# Altium integrated library Micron Memory DDR2 SDRAM.IntLib: 62 symbols (part 15 of 16)
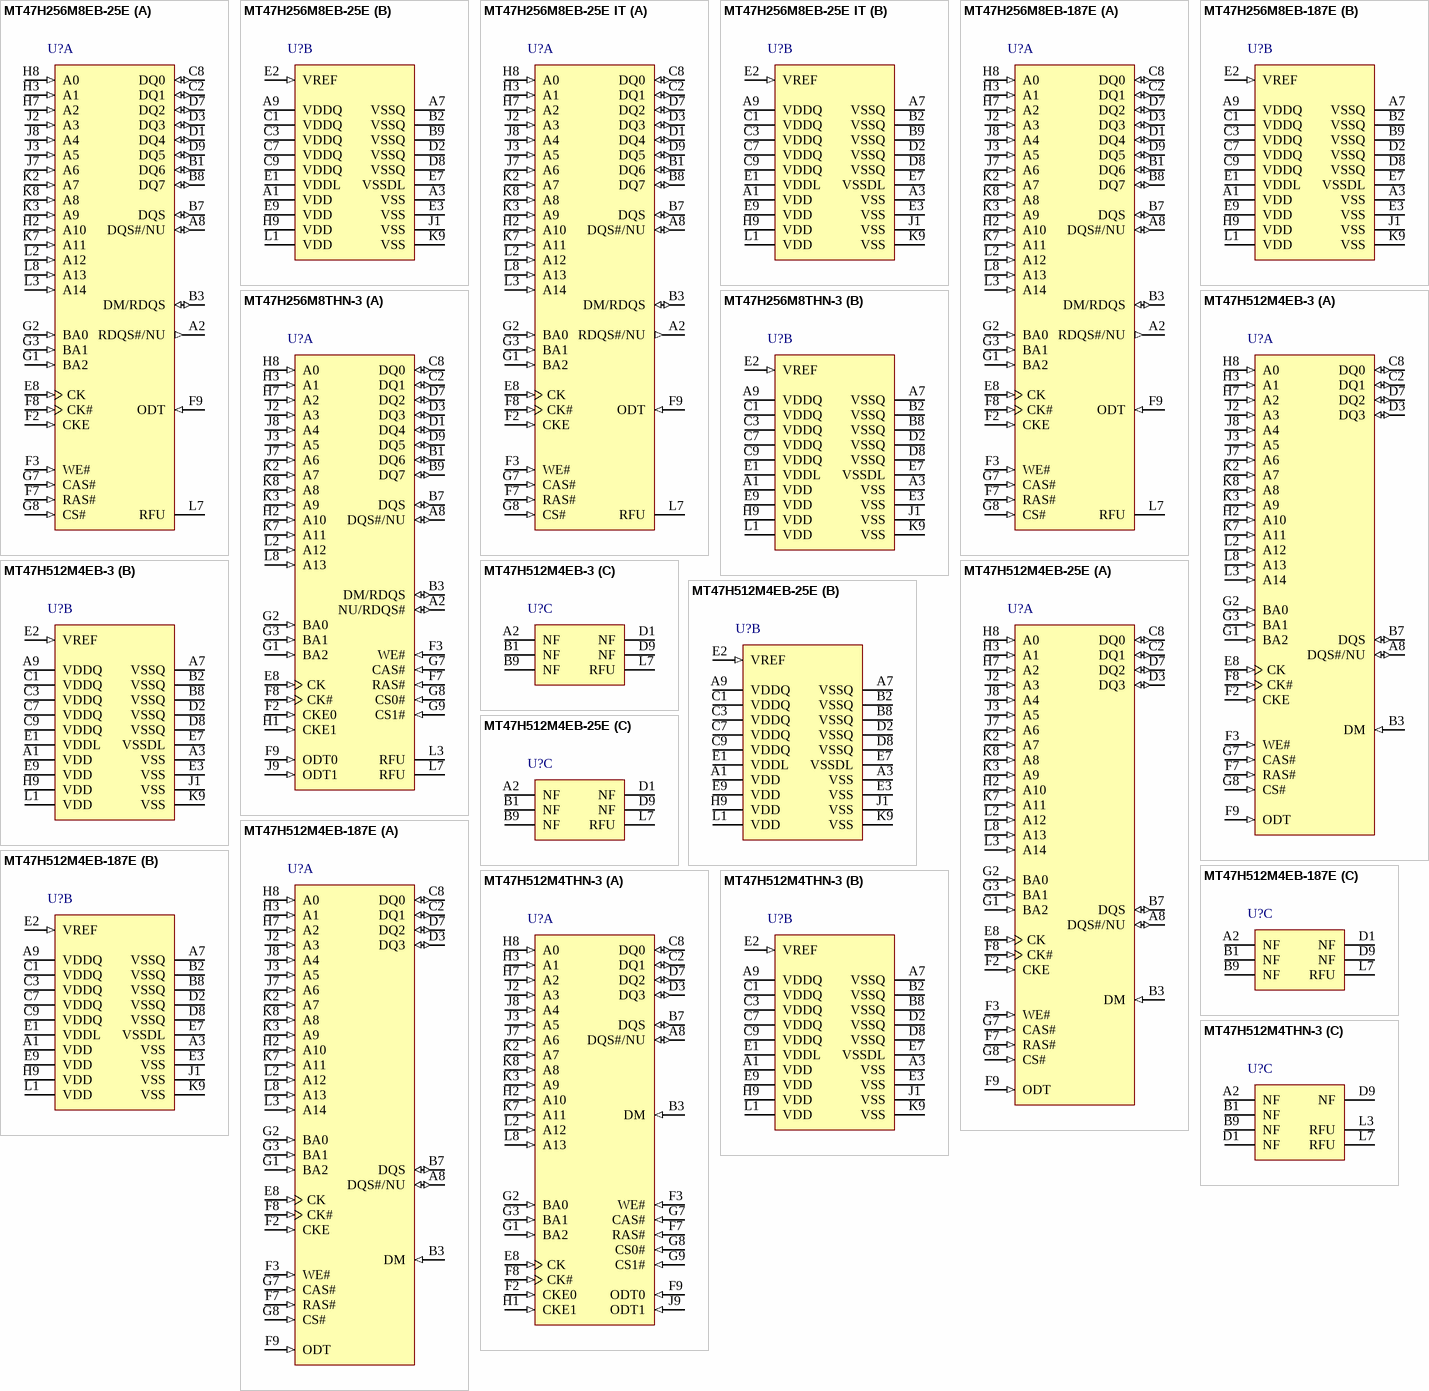
[diagram p21: symbols MT47H256M8EB-25E to MT47H512M4THN-3]

## MT47H512M4EB-3
designator U?
2Gb DDR2-667 SDRAM, 512Mb x 4, 3ns, 1.8V, 0 to 85 degC, 60-Ball FBGA, Pb-Free; Manufacturer: Micron; PartNumber: MT47H512M4EB-3; CL: CL = 5; Clock Rate: 333 MHz; Op. Temp.: 0C to +85C; DatasheetVersion: Rev.H; PackageVersion: Rev.C; PackageReference: MICT-EB-60; PackageDescription: 60-Ball Fine-Pitch Ball Grid Array, 11.5 x 9 mm, Pitch 0.8 mm; Cycle Time: 3ns; Data Rate: DDR2-667; Density: 2Gb; Depth: 512Mb; Package: FBGA; Pin Count: 60-ball; RoHS: Yes; Voltage: 1.8V; Width: x4; Mounting Technology: Surface Mount; ComponentLink1Description: Manufacturer URL; ComponentLink1URL: http://www.micron.com/; ComponentLink2Description: Datasheet; ComponentLink2URL: http://www.micron.com/~/media/Documents/Products/Data%20Sheet/DRAM/2Gb_DDR2.pdf; ComponentLink3Description: Package Specification; ComponentLink3URL: http://www.micron.com/~/media/Documents/Products/Data%20Sheet/DRAM/2Gb_DDR2.pdf
footprint MICT-EB-60 (BGA, 60-Balls, Body 11.5x9mm, Pitch 0.8mm)
part A pins: A8 DQS#/NU (io) "Data strobe: Output with read data, input with write data for source synchronous operation. Edge-aligned with read data, center-aligned with write data. DQS# is only used when differential data strobe mode is enabled via the (See Datasheet)", B3 DM (in) "Input data mask: DM is an input mask signal for write data. Input data is masked when DM is concurrently sampled HIGH during a WRITE access. DM is sampled on both edges of DQS. Although DM balls are input-only, the DM (See Datasheet)", B7 DQS (io) "Data strobe: Output with read data, input with write data for source synchronous operation. Edge-aligned with read data, center-aligned with write data. DQS# is only used when differential data strobe mode is enabled via the (See Datasheet)", C2 DQ1 (io) "Data input/output: Bidirectional data bus for 512 Meg x 4.", C8 DQ0 (io) "Data input/output: Bidirectional data bus for 512 Meg x 4.", D3 DQ3 (io) "Data input/output: Bidirectional data bus for 512 Meg x 4.", D7 DQ2 (io) "Data input/output: Bidirectional data bus for 512 Meg x 4.", E8 CK (in) "Clock: CK and CK# are differential clock inputs. All address and control input signals are sampled on the crossing of the positive edge of CK and negative edge of CK#. Output data (DQ and DQS/DQS#) is referenced to the (See Datasheet)", F2 CKE (in) "Clock enable: CKE (registered HIGH) activates and CKE (registered LOW) deactivates clocking circuitry on the DDR2 SDRAM. The specific circuitry that is enabled/disabled is dependent on the DDR2 SDRAM configuration and (See Datasheet)", F3 WE# (in) "Command inputs: RAS#, CAS#, and WE# (along with CS#) define the command being entered.", F7 RAS# (in) "Command inputs: RAS#, CAS#, and WE# (along with CS#) define the command being entered.", F8 CK# (in) "Clock: CK and CK# are differential clock inputs. All address and control input signals are sampled on the crossing of the positive edge of CK and negative edge of CK#. Output data (DQ and DQS/DQS#) is referenced to the (See Datasheet)", F9 ODT (in) "On-die termination: ODT (registered HIGH) enables termination resistance internal to the DDR2 SDRAM. When enabled, ODT is only applied to each of the following balls: DQ[15:0], LDM, UDM, LDQS, LDQS#, UDQS, and UDQS# for the (See Datasheet)", G1 BA2 (in) "Bank address inputs: BA[2:0] define to which bank an ACTIVE, READ, WRITE, or PRECHARGE command is being applied. BA[2:0] define which mode register, including MR, EMR, EMR(2), and EMR(3), is loaded during the LOAD MODE (See Datasheet)", G2 BA0 (in) "Bank address inputs: BA[2:0] define to which bank an ACTIVE, READ, WRITE, or PRECHARGE command is being applied. BA[2:0] define which mode register, including MR, EMR, EMR(2), and EMR(3), is loaded during the LOAD MODE (See Datasheet)", G3 BA1 (in) "Bank address inputs: BA[2:0] define to which bank an ACTIVE, READ, WRITE, or PRECHARGE command is being applied. BA[2:0] define which mode register, including MR, EMR, EMR(2), and EMR(3), is loaded during the LOAD MODE (See Datasheet)", G7 CAS# (in) "Command inputs: RAS#, CAS#, and WE# (along with CS#) define the command being entered.", G8 CS# (in) "Chip select: CS# enables (registered LOW) and disables (registered HIGH) the command decoder. All commands are masked when CS# is registered high. CS# provides for external bank selection on systems with multiple ranks. CS# (See Datasheet)", H2 A10 (in) "Address inputs: Provide the row address for ACTIVE commands, and the column address and auto precharge bit (A10) for READ/WRITE commands, to select one location out of the memory array in the respective bank. A10 sampled (See Datasheet)", H3 A1 (in) "Address inputs: Provide the row address for ACTIVE commands, and the column address and auto precharge bit (A10) for READ/WRITE commands, to select one location out of the memory array in the respective bank. A10 sampled (See Datasheet)", H7 A2 (in) "Address inputs: Provide the row address for ACTIVE commands, and the column address and auto precharge bit (A10) for READ/WRITE commands, to select one location out of the memory array in the respective bank. A10 sampled (See Datasheet)", H8 A0 (in) "Address inputs: Provide the row address for ACTIVE commands, and the column address and auto precharge bit (A10) for READ/WRITE commands, to select one location out of the memory array in the respective bank. A10 sampled (See Datasheet)", J2 A3 (in) "Address inputs: Provide the row address for ACTIVE commands, and the column address and auto precharge bit (A10) for READ/WRITE commands, to select one location out of the memory array in the respective bank. A10 sampled (See Datasheet)", J3 A5 (in) "Address inputs: Provide the row address for ACTIVE commands, and the column address and auto precharge bit (A10) for READ/WRITE commands, to select one location out of the memory array in the respective bank. A10 sampled (See Datasheet)", J7 A6 (in) "Address inputs: Provide the row address for ACTIVE commands, and the column address and auto precharge bit (A10) for READ/WRITE commands, to select one location out of the memory array in the respective bank. A10 sampled (See Datasheet)", J8 A4 (in) "Address inputs: Provide the row address for ACTIVE commands, and the column address and auto precharge bit (A10) for READ/WRITE commands, to select one location out of the memory array in the respective bank. A10 sampled (See Datasheet)", K2 A7 (in) "Address inputs: Provide the row address for ACTIVE commands, and the column address and auto precharge bit (A10) for READ/WRITE commands, to select one location out of the memory array in the respective bank. A10 sampled (See Datasheet)", K3 A9 (in) "Address inputs: Provide the row address for ACTIVE commands, and the column address and auto precharge bit (A10) for READ/WRITE commands, to select one location out of the memory array in the respective bank. A10 sampled (See Datasheet)", K7 A11 (in) "Address inputs: Provide the row address for ACTIVE commands, and the column address and auto precharge bit (A10) for READ/WRITE commands, to select one location out of the memory array in the respective bank. A10 sampled (See Datasheet)", K8 A8 (in) "Address inputs: Provide the row address for ACTIVE commands, and the column address and auto precharge bit (A10) for READ/WRITE commands, to select one location out of the memory array in the respective bank. A10 sampled (See Datasheet)", L2 A12 (in) "Address inputs: Provide the row address for ACTIVE commands, and the column address and auto precharge bit (A10) for READ/WRITE commands, to select one location out of the memory array in the respective bank. A10 sampled (See Datasheet)", L3 A14 (in) "Address inputs: Provide the row address for ACTIVE commands, and the column address and auto precharge bit (A10) for READ/WRITE commands, to select one location out of the memory array in the respective bank. A10 sampled (See Datasheet)", L8 A13 (in) "Address inputs: Provide the row address for ACTIVE commands, and the column address and auto precharge bit (A10) for READ/WRITE commands, to select one location out of the memory array in the respective bank. A10 sampled (See Datasheet)"
part B pins: A1 VDD (power) "Power supply: 1.8V +/-0.1V.", A3 VSS (power) "Ground.", A7 VSSQ (power) "DQ ground: Isolated on the device for improved noise immunity.", A9 VDDQ (power) "DQ power supply: 1.8V +/-0.1V. Isolated on the device for improved noise immunity.", B2 VSSQ (power) "DQ ground: Isolated on the device for improved noise immunity.", B8 VSSQ (power) "DQ ground: Isolated on the device for improved noise immunity.", C1 VDDQ (power) "DQ power supply: 1.8V +/-0.1V. Isolated on the device for improved noise immunity.", C3 VDDQ (power) "DQ power supply: 1.8V +/-0.1V. Isolated on the device for improved noise immunity.", C7 VDDQ (power) "DQ power supply: 1.8V +/-0.1V. Isolated on the device for improved noise immunity.", C9 VDDQ (power) "DQ power supply: 1.8V +/-0.1V. Isolated on the device for improved noise immunity.", D2 VSSQ (power) "DQ ground: Isolated on the device for improved noise immunity.", D8 VSSQ (power) "DQ ground: Isolated on the device for improved noise immunity.", E1 VDDL (power) "DLL power supply: 1.8V +/-0.1V.", E2 VREF (in) "SSTL_18 reference voltage.", E3 VSS (power) "Ground.", E7 VSSDL (power) "DLL ground: Isolated on the device from VSS and VSSQ.", E9 VDD (power) "Power supply: 1.8V +/-0.1V.", H9 VDD (power) "Power supply: 1.8V +/-0.1V.", J1 VSS (power) "Ground.", K9 VSS (power) "Ground.", L1 VDD (power) "Power supply: 1.8V +/-0.1V."
part C pins: A2 NF "No function: Not used only on x4. These are data lines on the x8.", B1 NF "No function: Not used only on x4. These are data lines on the x8.", B9 NF "No function: Not used only on x4. These are data lines on the x8.", D1 NF "No function: Not used only on x4. These are data lines on the x8.", D9 NF "No function: Not used only on x4. These are data lines on the x8.", L7 RFU "Reserved for future use: Row address bits A14 (R3), A15 (R7) on the x16, and A15 (L7) on the x4/x8."

## MT47H512M4EB-25E
designator U?
2Gb DDR2-800 SDRAM, 512Mb x 4, 2.5ns, 1.8V, 0 to 85 degC, 60-Ball FBGA, Pb-Free; Manufacturer: Micron; PartNumber: MT47H512M4EB-25E; CL: CL = 5; Clock Rate: 400 MHz; Op. Temp.: 0C to +85C; DatasheetVersion: Rev.H; PackageVersion: Rev.C; PackageReference: MICT-EB-60; PackageDescription: 60-Ball Fine-Pitch Ball Grid Array, 11.5 x 9 mm, Pitch 0.8 mm; Cycle Time: 2.5ns; Data Rate: DDR2-800; Density: 2Gb; Depth: 512Mb; Package: FBGA; Pin Count: 60-ball; RoHS: Yes; Voltage: 1.8V; Width: x4; Mounting Technology: Surface Mount; ComponentLink1Description: Manufacturer URL; ComponentLink1URL: http://www.micron.com/; ComponentLink2Description: Datasheet; ComponentLink2URL: http://www.micron.com/~/media/Documents/Products/Data%20Sheet/DRAM/2Gb_DDR2.pdf; ComponentLink3Description: Package Specification; ComponentLink3URL: http://www.micron.com/~/media/Documents/Products/Data%20Sheet/DRAM/2Gb_DDR2.pdf
footprint MICT-EB-60 (BGA, 60-Balls, Body 11.5x9mm, Pitch 0.8mm)
part A pins: A8 DQS#/NU (io) "Data strobe: Output with read data, input with write data for source synchronous operation. Edge-aligned with read data, center-aligned with write data. DQS# is only used when differential data strobe mode is enabled via the (See Datasheet)", B3 DM (in) "Input data mask: DM is an input mask signal for write data. Input data is masked when DM is concurrently sampled HIGH during a WRITE access. DM is sampled on both edges of DQS. Although DM balls are input-only, the DM (See Datasheet)", B7 DQS (io) "Data strobe: Output with read data, input with write data for source synchronous operation. Edge-aligned with read data, center-aligned with write data. DQS# is only used when differential data strobe mode is enabled via the (See Datasheet)", C2 DQ1 (io) "Data input/output: Bidirectional data bus for 512 Meg x 4.", C8 DQ0 (io) "Data input/output: Bidirectional data bus for 512 Meg x 4.", D3 DQ3 (io) "Data input/output: Bidirectional data bus for 512 Meg x 4.", D7 DQ2 (io) "Data input/output: Bidirectional data bus for 512 Meg x 4.", E8 CK (in) "Clock: CK and CK# are differential clock inputs. All address and control input signals are sampled on the crossing of the positive edge of CK and negative edge of CK#. Output data (DQ and DQS/DQS#) is referenced to the (See Datasheet)", F2 CKE (in) "Clock enable: CKE (registered HIGH) activates and CKE (registered LOW) deactivates clocking circuitry on the DDR2 SDRAM. The specific circuitry that is enabled/disabled is dependent on the DDR2 SDRAM configuration and (See Datasheet)", F3 WE# (in) "Command inputs: RAS#, CAS#, and WE# (along with CS#) define the command being entered.", F7 RAS# (in) "Command inputs: RAS#, CAS#, and WE# (along with CS#) define the command being entered.", F8 CK# (in) "Clock: CK and CK# are differential clock inputs. All address and control input signals are sampled on the crossing of the positive edge of CK and negative edge of CK#. Output data (DQ and DQS/DQS#) is referenced to the (See Datasheet)", F9 ODT (in) "On-die termination: ODT (registered HIGH) enables termination resistance internal to the DDR2 SDRAM. When enabled, ODT is only applied to each of the following balls: DQ[15:0], LDM, UDM, LDQS, LDQS#, UDQS, and UDQS# for the (See Datasheet)", G1 BA2 (in) "Bank address inputs: BA[2:0] define to which bank an ACTIVE, READ, WRITE, or PRECHARGE command is being applied. BA[2:0] define which mode register, including MR, EMR, EMR(2), and EMR(3), is loaded during the LOAD MODE (See Datasheet)", G2 BA0 (in) "Bank address inputs: BA[2:0] define to which bank an ACTIVE, READ, WRITE, or PRECHARGE command is being applied. BA[2:0] define which mode register, including MR, EMR, EMR(2), and EMR(3), is loaded during the LOAD MODE (See Datasheet)", G3 BA1 (in) "Bank address inputs: BA[2:0] define to which bank an ACTIVE, READ, WRITE, or PRECHARGE command is being applied. BA[2:0] define which mode register, including MR, EMR, EMR(2), and EMR(3), is loaded during the LOAD MODE (See Datasheet)", G7 CAS# (in) "Command inputs: RAS#, CAS#, and WE# (along with CS#) define the command being entered.", G8 CS# (in) "Chip select: CS# enables (registered LOW) and disables (registered HIGH) the command decoder. All commands are masked when CS# is registered high. CS# provides for external bank selection on systems with multiple ranks. CS# (See Datasheet)", H2 A10 (in) "Address inputs: Provide the row address for ACTIVE commands, and the column address and auto precharge bit (A10) for READ/WRITE commands, to select one location out of the memory array in the respective bank. A10 sampled (See Datasheet)", H3 A1 (in) "Address inputs: Provide the row address for ACTIVE commands, and the column address and auto precharge bit (A10) for READ/WRITE commands, to select one location out of the memory array in the respective bank. A10 sampled (See Datasheet)", H7 A2 (in) "Address inputs: Provide the row address for ACTIVE commands, and the column address and auto precharge bit (A10) for READ/WRITE commands, to select one location out of the memory array in the respective bank. A10 sampled (See Datasheet)", H8 A0 (in) "Address inputs: Provide the row address for ACTIVE commands, and the column address and auto precharge bit (A10) for READ/WRITE commands, to select one location out of the memory array in the respective bank. A10 sampled (See Datasheet)", J2 A3 (in) "Address inputs: Provide the row address for ACTIVE commands, and the column address and auto precharge bit (A10) for READ/WRITE commands, to select one location out of the memory array in the respective bank. A10 sampled (See Datasheet)", J3 A5 (in) "Address inputs: Provide the row address for ACTIVE commands, and the column address and auto precharge bit (A10) for READ/WRITE commands, to select one location out of the memory array in the respective bank. A10 sampled (See Datasheet)", J7 A6 (in) "Address inputs: Provide the row address for ACTIVE commands, and the column address and auto precharge bit (A10) for READ/WRITE commands, to select one location out of the memory array in the respective bank. A10 sampled (See Datasheet)", J8 A4 (in) "Address inputs: Provide the row address for ACTIVE commands, and the column address and auto precharge bit (A10) for READ/WRITE commands, to select one location out of the memory array in the respective bank. A10 sampled (See Datasheet)", K2 A7 (in) "Address inputs: Provide the row address for ACTIVE commands, and the column address and auto precharge bit (A10) for READ/WRITE commands, to select one location out of the memory array in the respective bank. A10 sampled (See Datasheet)", K3 A9 (in) "Address inputs: Provide the row address for ACTIVE commands, and the column address and auto precharge bit (A10) for READ/WRITE commands, to select one location out of the memory array in the respective bank. A10 sampled (See Datasheet)", K7 A11 (in) "Address inputs: Provide the row address for ACTIVE commands, and the column address and auto precharge bit (A10) for READ/WRITE commands, to select one location out of the memory array in the respective bank. A10 sampled (See Datasheet)", K8 A8 (in) "Address inputs: Provide the row address for ACTIVE commands, and the column address and auto precharge bit (A10) for READ/WRITE commands, to select one location out of the memory array in the respective bank. A10 sampled (See Datasheet)", L2 A12 (in) "Address inputs: Provide the row address for ACTIVE commands, and the column address and auto precharge bit (A10) for READ/WRITE commands, to select one location out of the memory array in the respective bank. A10 sampled (See Datasheet)", L3 A14 (in) "Address inputs: Provide the row address for ACTIVE commands, and the column address and auto precharge bit (A10) for READ/WRITE commands, to select one location out of the memory array in the respective bank. A10 sampled (See Datasheet)", L8 A13 (in) "Address inputs: Provide the row address for ACTIVE commands, and the column address and auto precharge bit (A10) for READ/WRITE commands, to select one location out of the memory array in the respective bank. A10 sampled (See Datasheet)"
part B pins: A1 VDD (power) "Power supply: 1.8V +/-0.1V.", A3 VSS (power) "Ground.", A7 VSSQ (power) "DQ ground: Isolated on the device for improved noise immunity.", A9 VDDQ (power) "DQ power supply: 1.8V +/-0.1V. Isolated on the device for improved noise immunity.", B2 VSSQ (power) "DQ ground: Isolated on the device for improved noise immunity.", B8 VSSQ (power) "DQ ground: Isolated on the device for improved noise immunity.", C1 VDDQ (power) "DQ power supply: 1.8V +/-0.1V. Isolated on the device for improved noise immunity.", C3 VDDQ (power) "DQ power supply: 1.8V +/-0.1V. Isolated on the device for improved noise immunity.", C7 VDDQ (power) "DQ power supply: 1.8V +/-0.1V. Isolated on the device for improved noise immunity.", C9 VDDQ (power) "DQ power supply: 1.8V +/-0.1V. Isolated on the device for improved noise immunity.", D2 VSSQ (power) "DQ ground: Isolated on the device for improved noise immunity.", D8 VSSQ (power) "DQ ground: Isolated on the device for improved noise immunity.", E1 VDDL (power) "DLL power supply: 1.8V +/-0.1V.", E2 VREF (in) "SSTL_18 reference voltage.", E3 VSS (power) "Ground.", E7 VSSDL (power) "DLL ground: Isolated on the device from VSS and VSSQ.", E9 VDD (power) "Power supply: 1.8V +/-0.1V.", H9 VDD (power) "Power supply: 1.8V +/-0.1V.", J1 VSS (power) "Ground.", K9 VSS (power) "Ground.", L1 VDD (power) "Power supply: 1.8V +/-0.1V."
part C pins: A2 NF "No function: Not used only on x4. These are data lines on the x8.", B1 NF "No function: Not used only on x4. These are data lines on the x8.", B9 NF "No function: Not used only on x4. These are data lines on the x8.", D1 NF "No function: Not used only on x4. These are data lines on the x8.", D9 NF "No function: Not used only on x4. These are data lines on the x8.", L7 RFU "Reserved for future use: Row address bits A14 (R3), A15 (R7) on the x16, and A15 (L7) on the x4/x8."

## MT47H512M4EB-187E
designator U?
2Gb DDR2-1066 SDRAM, 512Mb x 4, 1.875ns, 1.8V, 0 to 85 degC, 60-Ball FBGA, Pb-Free; Manufacturer: Micron; PartNumber: MT47H512M4EB-187E; CL: CL = 7; Clock Rate: 533 MHz; Op. Temp.: 0C to +85C; DatasheetVersion: Rev.H; PackageVersion: Rev.C; PackageReference: MICT-EB-60; PackageDescription: 60-Ball Fine-Pitch Ball Grid Array, 11.5 x 9 mm, Pitch 0.8 mm; Cycle Time: 1.875ns; Data Rate: DDR2-1066; Density: 2Gb; Depth: 512Mb; Package: FBGA; Pin Count: 60-ball; RoHS: Yes; Voltage: 1.8V; Width: x4; Mounting Technology: Surface Mount; ComponentLink1Description: Manufacturer URL; ComponentLink1URL: http://www.micron.com/; ComponentLink2Description: Datasheet; ComponentLink2URL: http://www.micron.com/~/media/Documents/Products/Data%20Sheet/DRAM/2Gb_DDR2.pdf; ComponentLink3Description: Package Specification; ComponentLink3URL: http://www.micron.com/~/media/Documents/Products/Data%20Sheet/DRAM/2Gb_DDR2.pdf
footprint MICT-EB-60 (BGA, 60-Balls, Body 11.5x9mm, Pitch 0.8mm)
part A pins: A8 DQS#/NU (io) "Data strobe: Output with read data, input with write data for source synchronous operation. Edge-aligned with read data, center-aligned with write data. DQS# is only used when differential data strobe mode is enabled via the (See Datasheet)", B3 DM (in) "Input data mask: DM is an input mask signal for write data. Input data is masked when DM is concurrently sampled HIGH during a WRITE access. DM is sampled on both edges of DQS. Although DM balls are input-only, the DM (See Datasheet)", B7 DQS (io) "Data strobe: Output with read data, input with write data for source synchronous operation. Edge-aligned with read data, center-aligned with write data. DQS# is only used when differential data strobe mode is enabled via the (See Datasheet)", C2 DQ1 (io) "Data input/output: Bidirectional data bus for 512 Meg x 4.", C8 DQ0 (io) "Data input/output: Bidirectional data bus for 512 Meg x 4.", D3 DQ3 (io) "Data input/output: Bidirectional data bus for 512 Meg x 4.", D7 DQ2 (io) "Data input/output: Bidirectional data bus for 512 Meg x 4.", E8 CK (in) "Clock: CK and CK# are differential clock inputs. All address and control input signals are sampled on the crossing of the positive edge of CK and negative edge of CK#. Output data (DQ and DQS/DQS#) is referenced to the (See Datasheet)", F2 CKE (in) "Clock enable: CKE (registered HIGH) activates and CKE (registered LOW) deactivates clocking circuitry on the DDR2 SDRAM. The specific circuitry that is enabled/disabled is dependent on the DDR2 SDRAM configuration and (See Datasheet)", F3 WE# (in) "Command inputs: RAS#, CAS#, and WE# (along with CS#) define the command being entered.", F7 RAS# (in) "Command inputs: RAS#, CAS#, and WE# (along with CS#) define the command being entered.", F8 CK# (in) "Clock: CK and CK# are differential clock inputs. All address and control input signals are sampled on the crossing of the positive edge of CK and negative edge of CK#. Output data (DQ and DQS/DQS#) is referenced to the (See Datasheet)", F9 ODT (in) "On-die termination: ODT (registered HIGH) enables termination resistance internal to the DDR2 SDRAM. When enabled, ODT is only applied to each of the following balls: DQ[15:0], LDM, UDM, LDQS, LDQS#, UDQS, and UDQS# for the (See Datasheet)", G1 BA2 (in) "Bank address inputs: BA[2:0] define to which bank an ACTIVE, READ, WRITE, or PRECHARGE command is being applied. BA[2:0] define which mode register, including MR, EMR, EMR(2), and EMR(3), is loaded during the LOAD MODE (See Datasheet)", G2 BA0 (in) "Bank address inputs: BA[2:0] define to which bank an ACTIVE, READ, WRITE, or PRECHARGE command is being applied. BA[2:0] define which mode register, including MR, EMR, EMR(2), and EMR(3), is loaded during the LOAD MODE (See Datasheet)", G3 BA1 (in) "Bank address inputs: BA[2:0] define to which bank an ACTIVE, READ, WRITE, or PRECHARGE command is being applied. BA[2:0] define which mode register, including MR, EMR, EMR(2), and EMR(3), is loaded during the LOAD MODE (See Datasheet)", G7 CAS# (in) "Command inputs: RAS#, CAS#, and WE# (along with CS#) define the command being entered.", G8 CS# (in) "Chip select: CS# enables (registered LOW) and disables (registered HIGH) the command decoder. All commands are masked when CS# is registered high. CS# provides for external bank selection on systems with multiple ranks. CS# (See Datasheet)", H2 A10 (in) "Address inputs: Provide the row address for ACTIVE commands, and the column address and auto precharge bit (A10) for READ/WRITE commands, to select one location out of the memory array in the respective bank. A10 sampled (See Datasheet)", H3 A1 (in) "Address inputs: Provide the row address for ACTIVE commands, and the column address and auto precharge bit (A10) for READ/WRITE commands, to select one location out of the memory array in the respective bank. A10 sampled (See Datasheet)", H7 A2 (in) "Address inputs: Provide the row address for ACTIVE commands, and the column address and auto precharge bit (A10) for READ/WRITE commands, to select one location out of the memory array in the respective bank. A10 sampled (See Datasheet)", H8 A0 (in) "Address inputs: Provide the row address for ACTIVE commands, and the column address and auto precharge bit (A10) for READ/WRITE commands, to select one location out of the memory array in the respective bank. A10 sampled (See Datasheet)", J2 A3 (in) "Address inputs: Provide the row address for ACTIVE commands, and the column address and auto precharge bit (A10) for READ/WRITE commands, to select one location out of the memory array in the respective bank. A10 sampled (See Datasheet)", J3 A5 (in) "Address inputs: Provide the row address for ACTIVE commands, and the column address and auto precharge bit (A10) for READ/WRITE commands, to select one location out of the memory array in the respective bank. A10 sampled (See Datasheet)", J7 A6 (in) "Address inputs: Provide the row address for ACTIVE commands, and the column address and auto precharge bit (A10) for READ/WRITE commands, to select one location out of the memory array in the respective bank. A10 sampled (See Datasheet)", J8 A4 (in) "Address inputs: Provide the row address for ACTIVE commands, and the column address and auto precharge bit (A10) for READ/WRITE commands, to select one location out of the memory array in the respective bank. A10 sampled (See Datasheet)", K2 A7 (in) "Address inputs: Provide the row address for ACTIVE commands, and the column address and auto precharge bit (A10) for READ/WRITE commands, to select one location out of the memory array in the respective bank. A10 sampled (See Datasheet)", K3 A9 (in) "Address inputs: Provide the row address for ACTIVE commands, and the column address and auto precharge bit (A10) for READ/WRITE commands, to select one location out of the memory array in the respective bank. A10 sampled (See Datasheet)", K7 A11 (in) "Address inputs: Provide the row address for ACTIVE commands, and the column address and auto precharge bit (A10) for READ/WRITE commands, to select one location out of the memory array in the respective bank. A10 sampled (See Datasheet)", K8 A8 (in) "Address inputs: Provide the row address for ACTIVE commands, and the column address and auto precharge bit (A10) for READ/WRITE commands, to select one location out of the memory array in the respective bank. A10 sampled (See Datasheet)", L2 A12 (in) "Address inputs: Provide the row address for ACTIVE commands, and the column address and auto precharge bit (A10) for READ/WRITE commands, to select one location out of the memory array in the respective bank. A10 sampled (See Datasheet)", L3 A14 (in) "Address inputs: Provide the row address for ACTIVE commands, and the column address and auto precharge bit (A10) for READ/WRITE commands, to select one location out of the memory array in the respective bank. A10 sampled (See Datasheet)", L8 A13 (in) "Address inputs: Provide the row address for ACTIVE commands, and the column address and auto precharge bit (A10) for READ/WRITE commands, to select one location out of the memory array in the respective bank. A10 sampled (See Datasheet)"
part B pins: A1 VDD (power) "Power supply: 1.8V +/-0.1V.", A3 VSS (power) "Ground.", A7 VSSQ (power) "DQ ground: Isolated on the device for improved noise immunity.", A9 VDDQ (power) "DQ power supply: 1.8V +/-0.1V. Isolated on the device for improved noise immunity.", B2 VSSQ (power) "DQ ground: Isolated on the device for improved noise immunity.", B8 VSSQ (power) "DQ ground: Isolated on the device for improved noise immunity.", C1 VDDQ (power) "DQ power supply: 1.8V +/-0.1V. Isolated on the device for improved noise immunity.", C3 VDDQ (power) "DQ power supply: 1.8V +/-0.1V. Isolated on the device for improved noise immunity.", C7 VDDQ (power) "DQ power supply: 1.8V +/-0.1V. Isolated on the device for improved noise immunity.", C9 VDDQ (power) "DQ power supply: 1.8V +/-0.1V. Isolated on the device for improved noise immunity.", D2 VSSQ (power) "DQ ground: Isolated on the device for improved noise immunity.", D8 VSSQ (power) "DQ ground: Isolated on the device for improved noise immunity.", E1 VDDL (power) "DLL power supply: 1.8V +/-0.1V.", E2 VREF (in) "SSTL_18 reference voltage.", E3 VSS (power) "Ground.", E7 VSSDL (power) "DLL ground: Isolated on the device from VSS and VSSQ.", E9 VDD (power) "Power supply: 1.8V +/-0.1V.", H9 VDD (power) "Power supply: 1.8V +/-0.1V.", J1 VSS (power) "Ground.", K9 VSS (power) "Ground.", L1 VDD (power) "Power supply: 1.8V +/-0.1V."
part C pins: A2 NF "No function: Not used only on x4. These are data lines on the x8.", B1 NF "No function: Not used only on x4. These are data lines on the x8.", B9 NF "No function: Not used only on x4. These are data lines on the x8.", D1 NF "No function: Not used only on x4. These are data lines on the x8.", D9 NF "No function: Not used only on x4. These are data lines on the x8.", L7 RFU "Reserved for future use: Row address bits A14 (R3), A15 (R7) on the x16, and A15 (L7) on the x4/x8."

## MT47H512M4THN-3
designator U?
2Gb DDR2-667 SDRAM, 512Mb x 4, 3ns, 1.8V, 0 to 85 degC, 63-Ball FBGA, Pb-Free; Manufacturer: Micron; PartNumber: MT47H512M4THN-3; CL: CL = 5; Clock Rate: 333 MHz; Op. Temp.: 0C to +85C; DatasheetVersion: Rev.X; PackageVersion: Rev.D; PackageReference: MICT-THN-63; PackageDescription: 63-Ball Fine-Pitch Ball Grid Array, 11.5 x 9 mm, Pitch 0.8 mm; Cycle Time: 3ns; Data Rate: DDR2-667; Density: 2Gb; Depth: 512Mb; Package: FBGA; Pin Count: 63-ball; RoHS: Yes; Voltage: 1.8V; Width: x4; Mounting Technology: Surface Mount; ComponentLink1Description: Manufacturer URL; ComponentLink1URL: http://www.micron.com/; ComponentLink2Description: Datasheet; ComponentLink2URL: http://www.micron.com/~/media/Documents/Products/Data%20Sheet/DRAM/1Gb_DDR2.pdf; ComponentLink3Description: Package Specification; ComponentLink3URL: http://www.micron.com/~/media/Documents/Products/Data%20Sheet/DRAM/458MT47H512M4_32M_16M_twindie.pdf
footprint MICT-THN-63 (BGA, 63-Balls, Body 11.5x9mm, Pitch 0.8mm)
part A pins: A8 DQS#/NU (io) "Data strobe: Output with read data. Edge-aligned with read data. Input with write data. Center-aligned with write data. DQS# is used only when differential data strobe mode is enabled via the LOAD MODE command.", B3 DM (in) "Input data mask: DM is an input mask signal for write data. Input data is masked when DM is sampled HIGH, along with the input data, during a write access. DM is sampled on both edges of DQS. Although the DM balls are (See Datasheet)", B7 DQS (io) "Data strobe: Output with read data. Edge-aligned with read data. Input with write data. Center-aligned with write data. DQS# is used only when differential data strobe mode is enabled via the LOAD MODE command.", C2 DQ1 (io) "Data input/output: Bidirectional data bus for the x4 configuration.", C8 DQ0 (io) "Data input/output: Bidirectional data bus for the x4 configuration.", D3 DQ3 (io) "Data input/output: Bidirectional data bus for the x4 configuration.", D7 DQ2 (io) "Data input/output: Bidirectional data bus for the x4 configuration.", E8 CK (in) "Clock: CK and CK# are differential clock inputs. All control, command, and address input signals are sampled on the crossing of the positive edge of CK and the negative edge of CK#.", F2 CKE0 (in) "Clock enable: CKE enables (registered HIGH) and disables (registered LOW) the internal circuitry and clocks on the DDR2 SDRAM.", F3 WE# (in) "Command inputs: RAS#, CAS#, and WE# (along with CS#) define the command being entered.", F7 RAS# (in) "Command inputs: RAS#, CAS#, and WE# (along with CS#) define the command being entered.", F8 CK# (in) "Clock: CK and CK# are differential clock inputs. All control, command, and address input signals are sampled on the crossing of the positive edge of CK and the negative edge of CK#.", F9 ODT0 (in) "On-die termination: ODT enables (registered HIGH) and disables (registered LOW) termination resistance internal to the DDR2 SDRAM. When enabled in normal operation, ODT is applied only to the following balls: DQ, DQS, DQS#, (See Datasheet)", G1 BA2 (in) "Bank address inputs: BA[2:0] define the bank to which an ACTIVE, READ, WRITE, or PRECHARGE command is being applied. BA[2:0] define which mode register (MR, EMR1, EMR2, and EMR3) is loaded during the LOAD MODE command.", G2 BA0 (in) "Bank address inputs: BA[2:0] define the bank to which an ACTIVE, READ, WRITE, or PRECHARGE command is being applied. BA[2:0] define which mode register (MR, EMR1, EMR2, and EMR3) is loaded during the LOAD MODE command.", G3 BA1 (in) "Bank address inputs: BA[2:0] define the bank to which an ACTIVE, READ, WRITE, or PRECHARGE command is being applied. BA[2:0] define which mode register (MR, EMR1, EMR2, and EMR3) is loaded during the LOAD MODE command.", G7 CAS# (in) "Command inputs: RAS#, CAS#, and WE# (along with CS#) define the command being entered.", G8 CS0# (in) "Chip select: CS# enables (registered LOW) and disables (registered HIGH) the command decoder.", G9 CS1# (in) "Chip select: CS# enables (registered LOW) and disables (registered HIGH) the command decoder.", H1 CKE1 (in) "Clock enable: CKE enables (registered HIGH) and disables (registered LOW) the internal circuitry and clocks on the DDR2 SDRAM.", H2 A10 (in) "Address inputs: Provide the row address for ACTIVE commands, and the column address and auto precharge bit (A10) for READ/WRITE commands, to select one location out of the memory array in the respective bank. A10 sampled (See Datasheet)", H3 A1 (in) "Address inputs: Provide the row address for ACTIVE commands, and the column address and auto precharge bit (A10) for READ/WRITE commands, to select one location out of the memory array in the respective bank. A10 sampled (See Datasheet)", H7 A2 (in) "Address inputs: Provide the row address for ACTIVE commands, and the column address and auto precharge bit (A10) for READ/WRITE commands, to select one location out of the memory array in the respective bank. A10 sampled (See Datasheet)", H8 A0 (in) "Address inputs: Provide the row address for ACTIVE commands, and the column address and auto precharge bit (A10) for READ/WRITE commands, to select one location out of the memory array in the respective bank. A10 sampled (See Datasheet)", J2 A3 (in) "Address inputs: Provide the row address for ACTIVE commands, and the column address and auto precharge bit (A10) for READ/WRITE commands, to select one location out of the memory array in the respective bank. A10 sampled (See Datasheet)", J3 A5 (in) "Address inputs: Provide the row address for ACTIVE commands, and the column address and auto precharge bit (A10) for READ/WRITE commands, to select one location out of the memory array in the respective bank. A10 sampled (See Datasheet)", J7 A6 (in) "Address inputs: Provide the row address for ACTIVE commands, and the column address and auto precharge bit (A10) for READ/WRITE commands, to select one location out of the memory array in the respective bank. A10 sampled (See Datasheet)", J8 A4 (in) "Address inputs: Provide the row address for ACTIVE commands, and the column address and auto precharge bit (A10) for READ/WRITE commands, to select one location out of the memory array in the respective bank. A10 sampled (See Datasheet)", J9 ODT1 (in) "On-die termination: ODT enables (registered HIGH) and disables (registered LOW) termination resistance internal to the DDR2 SDRAM. When enabled in normal operation, ODT is applied only to the following balls: DQ, DQS, DQS#, (See Datasheet)", K2 A7 (in) "Address inputs: Provide the row address for ACTIVE commands, and the column address and auto precharge bit (A10) for READ/WRITE commands, to select one location out of the memory array in the respective bank. A10 sampled (See Datasheet)", K3 A9 (in) "Address inputs: Provide the row address for ACTIVE commands, and the column address and auto precharge bit (A10) for READ/WRITE commands, to select one location out of the memory array in the respective bank. A10 sampled (See Datasheet)", K7 A11 (in) "Address inputs: Provide the row address for ACTIVE commands, and the column address and auto precharge bit (A10) for READ/WRITE commands, to select one location out of the memory array in the respective bank. A10 sampled (See Datasheet)", K8 A8 (in) "Address inputs: Provide the row address for ACTIVE commands, and the column address and auto precharge bit (A10) for READ/RITE commands, to select one location out of the memory array in the respective bank. A10 sampled (See Datasheet)", L2 A12 (in) "Address inputs: Provide the row address for ACTIVE commands, and the column address and auto precharge bit (A10) for READ/WRITE commands, to select one location out of the memory array in the respective bank. A10 sampled (See Datasheet)", L8 A13 (in) "Address inputs: Provide the row address for ACTIVE commands, and the column address and auto precharge bit (A10) for READ/WRITE commands, to select one location out of the memory array in the respective bank. A10 sampled (See Datasheet)"
part B pins: A1 VDD (power) "Power supply: 1.8V +/-0.1V", A3 VSS (power) "Ground.", A7 VSSQ (power) "DQ ground: Isolated on the device for improved noise immunity", A9 VDDQ (power) "DQ power supply: 1.8V +/-0.1V. Isolated on the device for improved noise immunity.", B2 VSSQ (power) "DQ ground: Isolated on the device for improved noise immunity", B8 VSSQ (power) "DQ ground: Isolated on the device for improved noise immunity", C1 VDDQ (power) "DQ power supply: 1.8V +/-0.1V. Isolated on the device for improved noise immunity", C3 VDDQ (power) "DQ power supply: 1.8V +/-0.1V. Isolated on the device for improved noise immunity", C7 VDDQ (power) "DQ power supply: 1.8V +/-0.1V. Isolated on the device for improved noise immunity", C9 VDDQ (power) "DQ power supply: 1.8V +/-0.1V. Isolated on the device for improved noise immunity", D2 VSSQ (power) "DQ ground: Isolated on the device for improved noise immunity", D8 VSSQ (power) "DQ ground: Isolated on the device for improved noise immunity", E1 VDDL (power) "DLL power supply: 1.8V +/-0.1V.", E2 VREF (in) "Reference voltage: VDD/2.", E3 VSS (power) "Ground.", E7 VSSDL (power) "DLL ground: Isolated on the device from Vss and Vssq.", E9 VDD (power) "Power supply: 1.8V +/-0.1V", H9 VDD (power) "Power supply: 1.8V +/-0.1V", J1 VSS (power) "Ground.", K9 VSS (power) "Ground.", L1 VDD (power) "Power supply: 1.8V +/-0.1V"
part C pins: A2 NF "No function: These balls provide no functionality on the x4 configuration only.", B1 NF "No function: These balls provide no functionality on the x4 configuration only.", B9 NF "No function: These balls provide no functionality on the x4 configuration only.", D1 NF "No function: These balls provide no functionality on the x4 configuration only.", D9 NF "No function: These balls provide no functionality on the x4 configuration only.", L3 RFU "Reserved for future use: Row address bits A14 and A15.", L7 RFU "Reserved for future use: Row address bits A14 and A15."

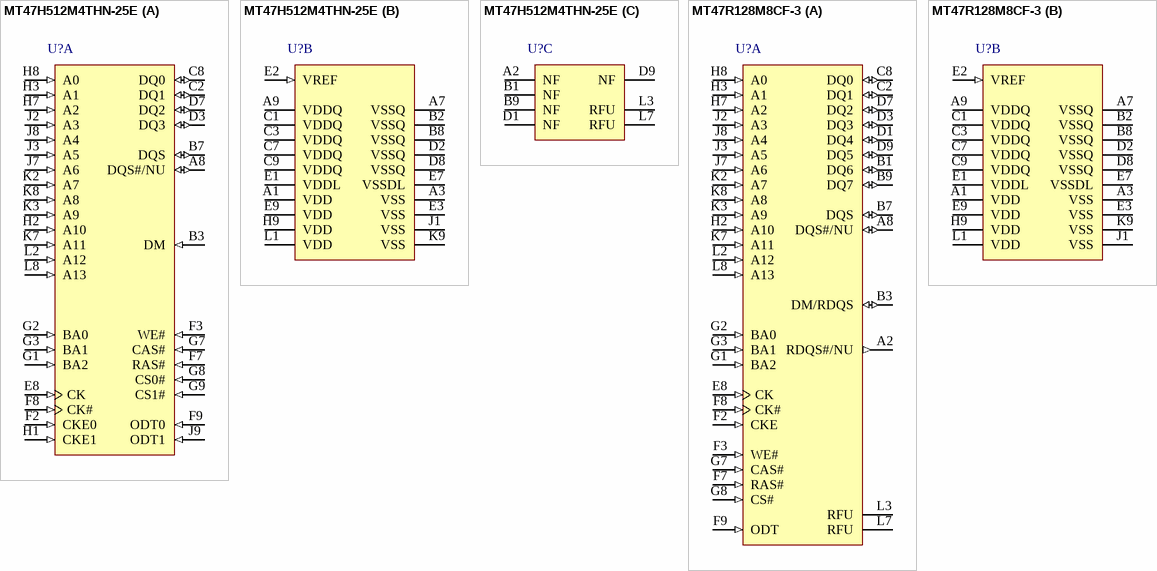
[diagram p7: symbols MT47H512M4THN-25E to MT47R128M8CF-3]